# Altium footprint library PHOENIX_MKDS_5.08MM_3x1.PcbLib: 1 footprints
Each footprint in its own frame and in the unit in brackets; x right, y up, seen from the top. Pads: shape width x height; smd on the part's side, far side on the other; paste and mask are expansions set on the pad; w line width, h text height; cw(c..) or ccw(c..) is an arc to the next point about the centre after c.
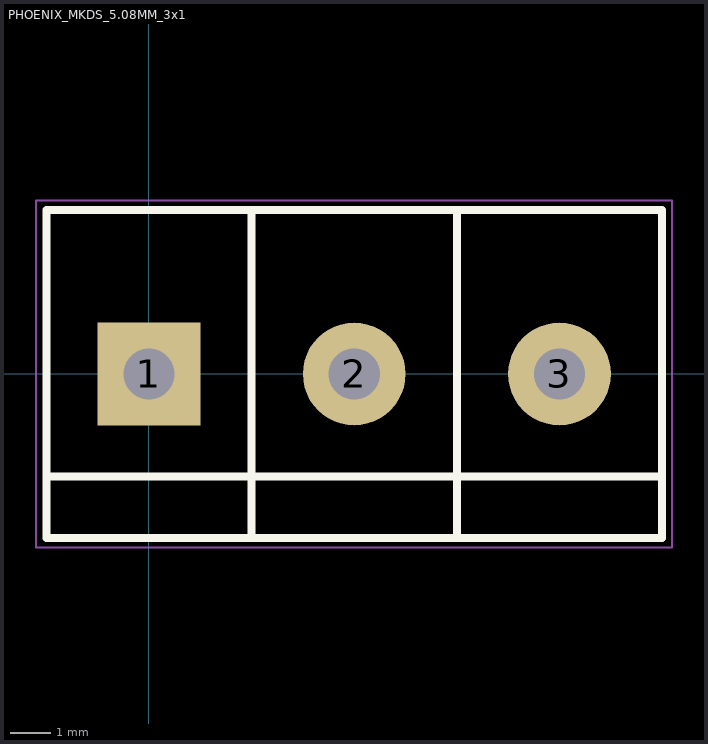
[diagram p0: the footprint, top view; thin cyan lines are the x and y axes]

## PHOENIX_MKDS_5.08MM_3x1 [mil]
pads (3):
  rect 100x100 hole 50: 1(0,0)
  round 100 hole 50: 2(200,0) 3(400,0)
Top Overlay:
  lines w7.87: -100,-100 300,-100 500,-100 ; 100,-160 100,160 ; 300,-160 500,-160 500,160 300,160 ; 300,-160 -100,-160 -100,160 300,160 ; 300,-160 300,160
Mechanical 15:
  lines w1.97: -110.24,-169.29 509.84,-169.29 509.84,169.29 -110.24,169.29 -110.24,-169.29
3D body "1729131.SLDPRT": height 393.7, standoff -137.8, extent -100,-158.9 500,160